# EAGLE library part 20-WAY (library pimoroni-headers)
1x20 .1" header This is just like the LOCK variant in that the holes are staggared by 5 mil, but except for the last two holes. They are not altered from the "standard" footprint layout. This is used for a special purpose on the layout of our Graphic LCD Backpack. Make sure you want to use this device before selecting it for you project!
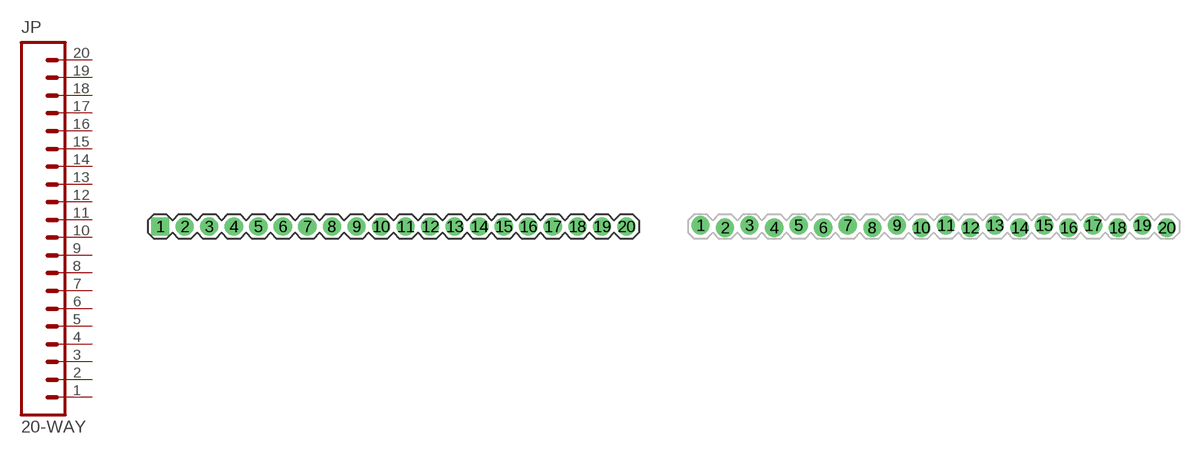
[diagram p1: symbol with the pads of 1X20; footprints 1X20, 1X20-LOCK]

Designator prefix JP

## 20-WAY-MALE  [1X20]
1  1  pas
2  2  pas
3  3  pas
4  4  pas
5  5  pas
6  6  pas
7  7  pas
8  8  pas
9  9  pas
10  10  pas
11  11  pas
12  12  pas
13  13  pas
14  14  pas
15  15  pas
16  16  pas
17  17  pas
18  18  pas
19  19  pas
20  20  pas

## 20-WAY-LOCK-MALE  [1X20-LOCK]
Pads as for 1X20

## 20-WAY-LOCK-FEMALE  [1X20-LOCK-FEMALE]
Pads as for 1X20

## 20-WAY  [1X20-SMT-RIGHT-FEMALE]
P$1  1  pas
P$2  2  pas
P$3  3  pas
P$4  4  pas
P$5  5  pas
P$6  6  pas
P$7  7  pas
P$8  8  pas
P$9  9  pas
P$10  10  pas
P$11  11  pas
P$12  12  pas
P$13  13  pas
P$14  14  pas
P$15  15  pas
P$16  16  pas
P$17  17  pas
P$18  18  pas
P$19  19  pas
P$20  20  pas

## Footprint 1X20 (pad centres in mm)
drill 1.016 pad 1.88 square: 1 0,0
drill 1.016 pad 1.88: 2 2.54,0; 3 5.08,0; 4 7.62,0; 5 10.16,0; 6 12.7,0; 7 15.24,0; 8 17.78,0; 9 20.32,0; 10 22.86,0; 11 25.4,0; 12 27.94,0; 13 30.48,0; 14 33.02,0; 15 35.56,0; 16 38.1,0; 17 40.64,0; 18 43.18,0; 19 45.72,0; 20 48.26,0

## Footprint 1X20-LOCK (pad centres in mm)
drill 1.016 pad 1.88: 1 0,0.127; 2 2.54,-0.127; 3 5.08,0.127; 4 7.62,-0.127; 5 10.16,0.127; 6 12.7,-0.127; 7 15.24,0.127; 8 17.78,-0.127; 9 20.32,0.127; 10 22.86,-0.127; 11 25.4,0.127; 12 27.94,-0.127; 13 30.48,0.127; 14 33.02,-0.127; 15 35.56,0.127; 16 38.1,-0.127; 17 40.64,0.127; 18 43.18,-0.127; 19 45.72,0.127; 20 48.26,-0.127

## Footprint 1X20-LOCK-FEMALE (pad centres in mm)
drill 0.9 pad 1.88: 1 -24.13,0.127; 2 -21.59,-0.127; 3 -19.05,0.127; 4 -16.51,-0.127; 5 -13.97,0.127; 6 -11.43,-0.127; 7 -8.89,0.127; 8 -6.35,-0.127; 9 -3.81,0.127; 10 -1.27,-0.127; 11 1.27,0.127; 12 3.81,-0.127; 13 6.35,0.127; 14 8.89,-0.127; 15 11.43,0.127; 16 13.97,-0.127; 17 16.51,0.127; 18 19.05,-0.127; 19 21.59,0.127; 20 24.13,-0.127

## Footprint 1X20-SMT-RIGHT-FEMALE (pad centres in mm)
smd 0.9 x 3.7: P$1 -24.13,0; P$2 -21.59,0; P$3 -19.05,0; P$4 -16.51,0; P$5 -13.97,0; P$6 -11.43,0; P$7 -8.89,0; P$8 -6.35,0; P$9 -3.81,0; P$10 -1.27,0; P$11 1.27,0; P$12 3.81,0; P$13 6.35,0; P$14 8.89,0; P$15 11.43,0; P$16 13.97,0; P$17 16.51,0; P$18 19.05,0; P$19 21.59,0; P$20 24.13,0